# Altium footprint library SunLED TricolourLED.PcbLib: 1 footprints
Each footprint in its own frame and in the unit in brackets; x right, y up, seen from the top. Pads: shape width x height; smd on the part's side, far side on the other; paste and mask are expansions set on the pad; w line width, h text height; cw(c..) or ccw(c..) is an arc to the next point about the centre after c.
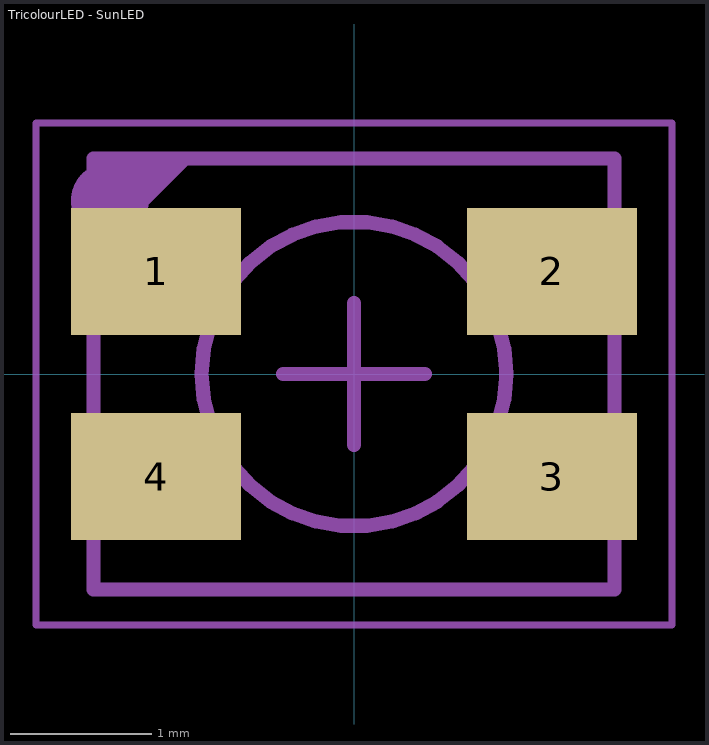
[diagram p0: the footprint, top view; thin cyan lines are the x and y axes]

## TricolourLED - SunLED [mm]
pads (4):
  rect 1.2x0.9 smd: 1(-1.4,0.725) 2(1.4,0.725) 3(1.4,-0.725) 4(-1.4,-0.725)
Mechanical 6:
  text "'.Designator'" at -0.95,-0.25 h0.6
Mechanical 8:
  circle w0.3: c-1.725,1.225 r0.125
  lines w0.05: -2.25,-1.775 2.25,-1.775 2.25,1.775 -2.25,1.775 -2.25,-1.775
Mechanical 13:
  circle w0.1: c0,0 r1.077
  region: -1.85,1.525 -1.125,1.525 -1.85,0.8
  lines w0.1: -1.841,-1.524 1.841,-1.524 1.841,1.524 -1.841,1.524 -1.841,-1.524
Mechanical 15:
  lines w0.05: -2.25,-1.775 -2.25,1.775 2.25,1.775 2.25,-1.775 -2.25,-1.775
  lines w0.1: -0.5,0 0.5,0 ; 0,-0.5 0,0.5
3D body: height 1.9, standoff 0, extent -1.841,-1.524 1.841,1.524